# EAGLE library part MCP7940M-I/SN (library Common-Parts-Library-Eagle)
MCP7940M Series 5.5 V 64 byte I2C Real-Time Clock/Calendar with SRAM - SOIC-8
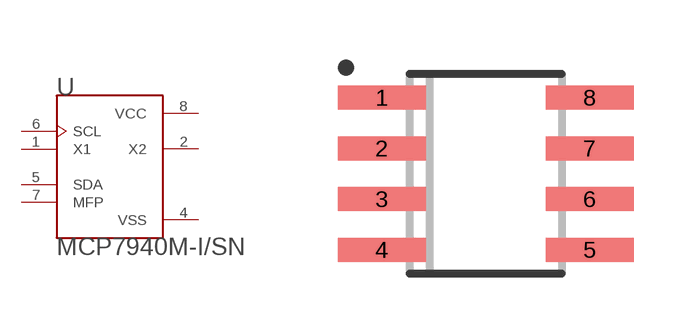
[diagram p76: symbol with the pads of MCP7940M-I/SN_SOIC127P600X175-8N; footprint MCP7940M-I/SN_SOIC127P600X175-8N]

Designator prefix U

## MCP7940M-I/SN (MANUFACTURER: Microchip)  [MCP7940M-I/SN_SOIC127P600X175-8N]
1  X1  in
2  X2  out
4  VSS  pas
5  SDA
6  SCL  in
7  MFP
8  VCC  pwr

## Footprint MCP7940M-I/SN_SOIC127P600X175-8N (pad centres in mm)
smd 2.2 x 0.6: 1 -2.6,1.905; 2 -2.6,0.635; 3 -2.6,-0.635; 4 -2.6,-1.905; 5 2.6,-1.905; 6 2.6,-0.635; 7 2.6,0.635; 8 2.6,1.905